# Altium schematic symbol library PocketLab_DMM_EVT0.SchLib: 42 symbols (part 3 of 3)
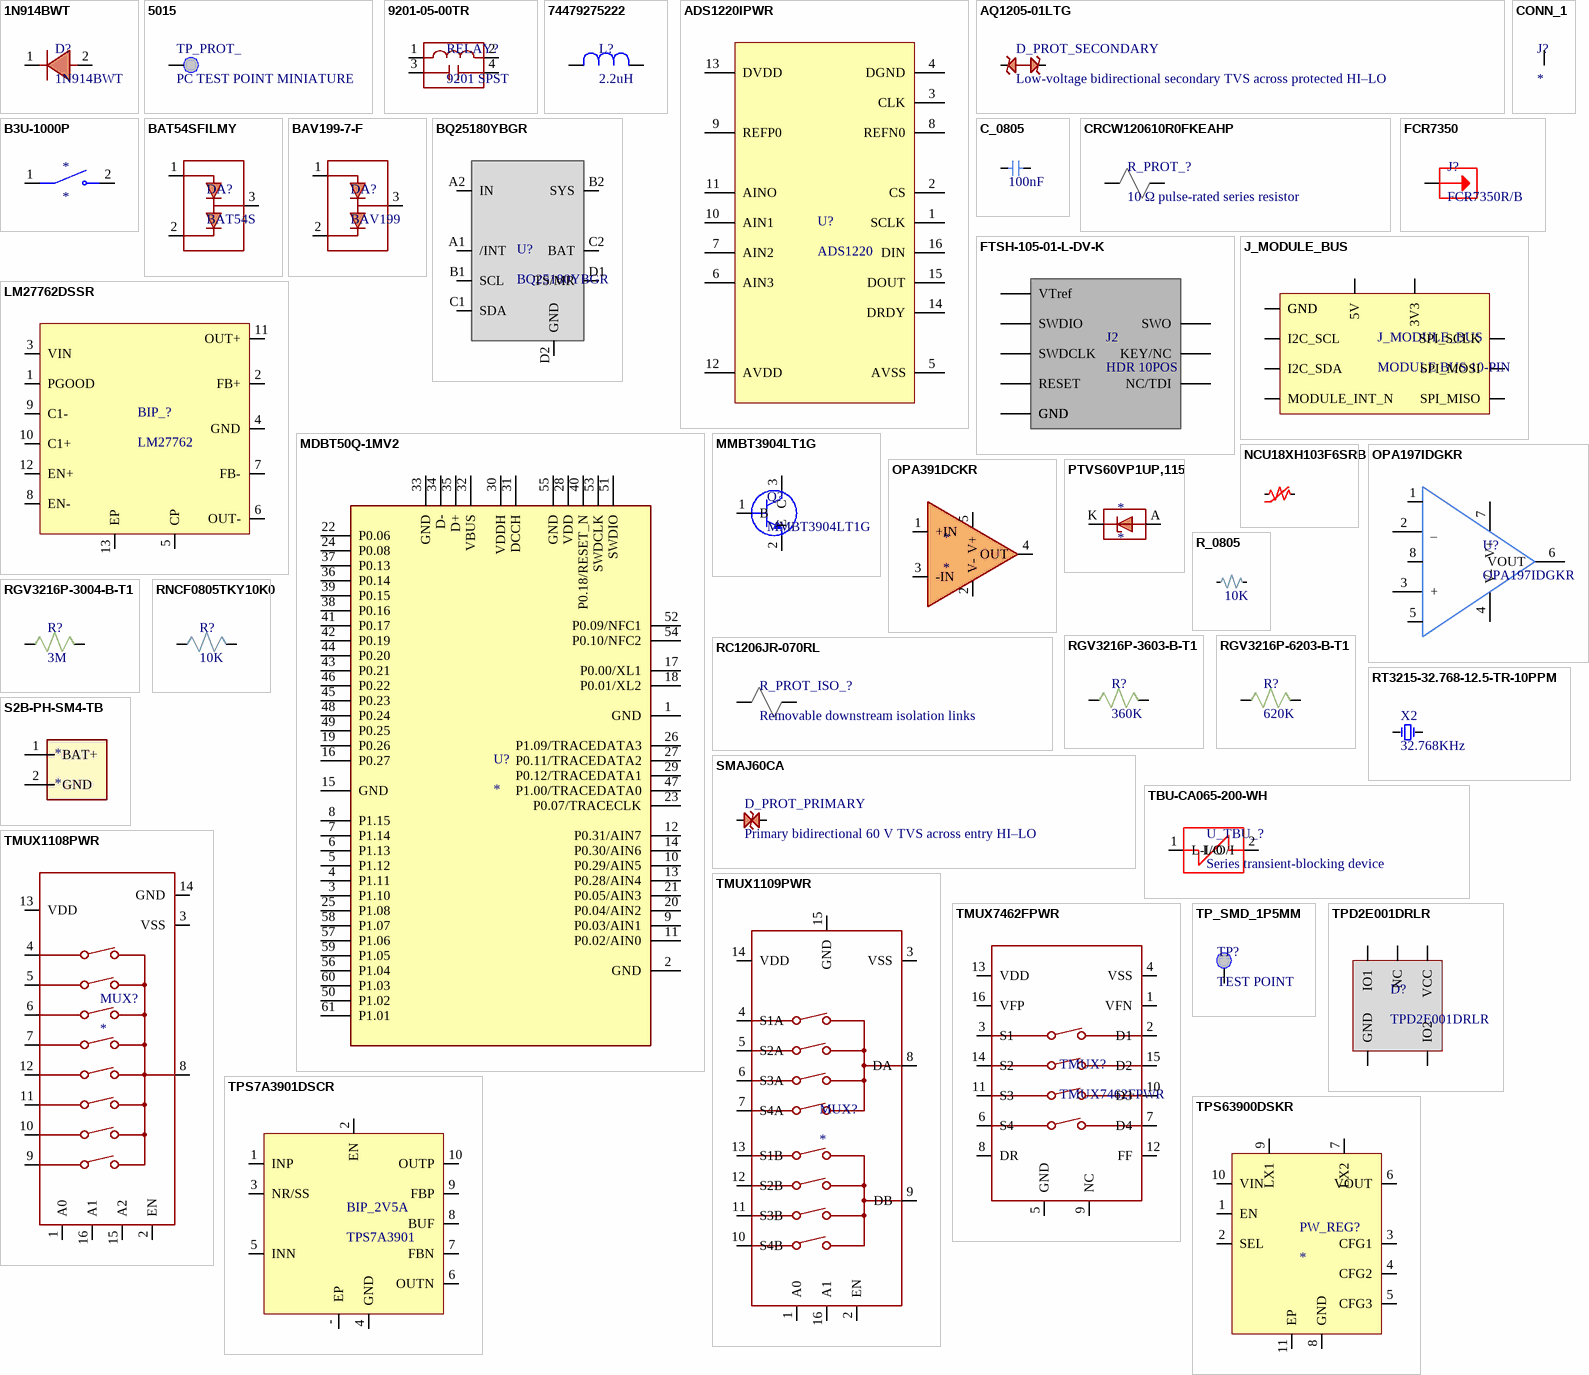
[diagram p3: symbols 1N914BWT to TPS63900DSKR]

## RNCF0805TKY10K0
designator R?, comment 10K
RES SMD 10K OHM 0.01% 1/8W 0805; Manufacturer: Stackpole Electronics; Manufacturer Part Number: RNCF0805TKY10K0; Manufacturer Package Identifier: 0805 (2012 metric); Max Power Dissipation: 125mW; Value: 10kΩ; Temperature Coefficient: 5ppm/°C; Working Voltage: 150V; Supplier: DigiKey; Supplier Part Number: RNCF0805TKY10K0CT-ND; RoHS: Compliant; Category: Chip SMD Resistors; Stock: 4649; Pricing: 1=1.61, 10=1.334, 50=1.1716, 100=1.1105, 500=0.99044, 1000=0.94751, 2000=0.90945, 3000=0.8893, 5000=0.86599, 7000=0.85183, 10000=0.8378 (USD); Case/Package: 0805; Case Code (Imperial): 0805; Case Code (Metric): 2012; Composition: Thin Film; Country of Origin: Taiwan; Export Control Classification Number (ECCN) Code: EAR99; Features: Moisture Resistant; Height: 550µm; Harmonized Tariff Schedule (HTS) Code: 8533.21.00.30; Introduction Date: 2011-06-03; Lead Free: Lead Free; Length: 2mm; Lifecycle Status: Production; Max Operating Temperature: 155°C; Min Operating Temperature: -55°C; Mounting Technology: Surface Mount; Number of Terminals: 2; Number of Terminations: 2; Packaging: Tape & Reel (TR); Power Rating: 125mW; Ratings: AEC-Q200; REACH SVHC: Yes; Schedule B: 8533210045, 8533210045|8533210045|8533210045|8533210045|8533210045; Tolerance: 0.01%; Width: 1.25mm; ComponentLink1URL: https://datasheet.octopart.com:443/RNCF0805TKY10K0-Stackpole-Electronics-datasheet-182148124.pdf?src-supplier=IHS; ComponentLink1Description: https://datasheet.octopart.com:443/RNCF0805TKY10K0-Stackpole-Electronics-datasheet-182148124.pdf?src-supplier=IHS; ComponentLink2URL: https://datasheet.octopart.com:443/RNCF0805TKY10K0-Stackpole-Electronics-datasheet-12511394.pdf?src-supplier=Factory+Futures; ComponentLink2Description: https://datasheet.octopart.com:443/RNCF0805TKY10K0-Stackpole-Electronics-datasheet-12511394.pdf?src-supplier=Factory+Futures; ComponentLink3URL: https://datasheet.octopart.com:443/RNCF0805TKY10K0-Stackpole-Electronics-datasheet-141158876.pdf?src-supplier=Stackpole+Electronics; ComponentLink3Description: https://datasheet.octopart.com:443/RNCF0805TKY10K0-Stackpole-Electronics-datasheet-141158876.pdf?src-supplier=Stackpole+Electronics; ComponentLink4URL: https://datasheet.octopart.com:443/RNCF0805TKY10K0-Stackpole-Electronics-datasheet-28504821.pdf?src-supplier=Master+Electronics; ComponentLink4Description: https://datasheet.octopart.com:443/RNCF0805TKY10K0-Stackpole-Electronics-datasheet-28504821.pdf?src-supplier=Master+Electronics; ComponentLink5URL: https://datasheet.octopart.com/RNCF0805TKY10K0-Stackpole-Electronics-datasheet-11755897.pdf; ComponentLink5Description: https://datasheet.octopart.com/RNCF0805TKY10K0-Stackpole-Electronics-datasheet-11755897.pdf; ComponentLink6URL: http://sigma.octopart.com:80/15941409/materials_sheet/Stackpole-Electronics-RNCF0805TKY10K0.pdf?src-supplier=Compliance+Statements; ComponentLink6Description: http://sigma.octopart.com:80/15941409/materials_sheet/Stackpole-Electronics-RNCF0805TKY10K0.pdf?src-supplier=Compliance+Statements; ComponentLink7URL: http://sigma.octopart.com:80/141158212/rohs_statement/Stackpole-Electronics-RNCF0805TKY10K0.pdf?src-supplier=Compliance+Statements; ComponentLink7Description: http://sigma.octopart.com:80/141158212/rohs_statement/Stackpole-Electronics-RNCF0805TKY10K0.pdf?src-supplier=Compliance+Statements; ComponentLink8URL: http://sigma.octopart.com:80/141158211/reach_statement/Stackpole-Electronics-RNCF0805TKY10K0.pdf?src-supplier=Compliance+Statements; ComponentLink8Description: http://sigma.octopart.com:80/141158211/reach_statement/Stackpole-Electronics-RNCF0805TKY10K0.pdf?src-supplier=Compliance+Statements
footprint R0805
pins: 1, 2

## RT3215-32.768-12.5-TR-10PPM
designator X2, comment 32.768KHz
Parallel - Fundamental Quartz Crystal, 0.032768MHz Nom; Manufacturer: Raltron Electronics; Manufacturer Part Number: RT3215-32.768-12.5-TR-10PPM; Frequency Stability: 144ppm; Frequency Tolerance: 0.001%; Load Capacitance: 12.5pF; ESR: 70kΩ; Supplier: DigiKey; Supplier Part Number: 2151-RT3215-32.768-12.5-TR-10PPMCT-ND; RoHS: Compliant; Category: Crystals; Stock: 7832; Pricing: 1=0.39, 10=0.342, 25=0.3236, 50=0.3104, 100=0.2976, 250=0.2814, 500=0.26974, 1000=0.25858 (USD); China RoHS: Compliant; Country of Origin: Mainland China; Frequency: 32.768kHz; Harmonized Tariff Schedule (HTS) Code: 8541.60.00.10; Introduction Date: 2020-02-06; Lead Free: Lead Free; Lifecycle Status: Production; Max Operating Temperature: 85°C; Min Operating Temperature: -40°C; Mounting Technology: Surface Mount; REACH SVHC: Yes; ComponentLink1URL: https://datasheet.octopart.com:443/RT3215-32.768-12.5-TR-10PPM-Raltron-Electronics-datasheet-181182522.pdf?src-supplier=IHS; ComponentLink1Description: https://datasheet.octopart.com:443/RT3215-32.768-12.5-TR-10PPM-Raltron-Electronics-datasheet-181182522.pdf?src-supplier=IHS; ComponentLink2URL: https://datasheet.octopart.com:443/RT3215-32.768-12.5-TR-10PPM-Raltron-Electronics-datasheet-82614827.pdf?src-supplier=Future+Electronics; ComponentLink2Description: https://datasheet.octopart.com:443/RT3215-32.768-12.5-TR-10PPM-Raltron-Electronics-datasheet-82614827.pdf?src-supplier=Future+Electronics; ComponentLink3URL: https://datasheet.octopart.com:443/RT3215-32.768-12.5-TR-10PPM-Raltron-Electronics-datasheet-62112304.pdf?src-supplier=Future+Electronics; ComponentLink3Description: https://datasheet.octopart.com:443/RT3215-32.768-12.5-TR-10PPM-Raltron-Electronics-datasheet-62112304.pdf?src-supplier=Future+Electronics; ComponentLink4URL: https://datasheet.octopart.com:443/RT3215-32.768-12.5-TR-10PPM-Raltron-Electronics-datasheet-12522443.pdf?src-supplier=Future+Electronics; ComponentLink4Description: https://datasheet.octopart.com:443/RT3215-32.768-12.5-TR-10PPM-Raltron-Electronics-datasheet-12522443.pdf?src-supplier=Future+Electronics
footprint RT3215
pins: 1, 2

## S2B-PH-SM4-TB
designator *
Board Connector, 2 Contact(s), 1 Row(s), Male, Right Angle, Surface Mount Terminal; Manufacturer: JST; Manufacturer Part Number: S2B-PH-SM4-TB; Contact Resistance: 20mΩ; Current Rating: 2A; Dielectric Material: Polyamide; Insulation Resistance: 1GΩ; Number of Poles: 2; Pitch: 2.0066mm; Ratings: CSA, TUV; Supplier: DigiKey; Supplier Part Number: 455-S2B-PH-SM4-TBDKR-ND; RoHS: Compliant; Category: Card Edge Connectors; Stock: 179159; Pricing: 1=0.49, 10=0.417, 100=0.3547, 500=0.31654 (USD); Case/Package: SMD/SMT; Contact Plating: Tin; Gender: Male; Height: 5.5mm; Length: 7.9mm; Lifecycle Status: Production; Max Operating Temperature: 85°C; Min Operating Temperature: -25°C; Pins: 2; Number of Positions: 2; Number of Rows: 1; Orientation: Right Angle; Terminal Pitch: 2mm; Width: 7.6mm; ComponentLink1URL: https://datasheet.octopart.com:443/S2B-PH-SM4-TB-JST-datasheet-15068535.pdf?src-supplier=IHS; ComponentLink1Description: https://datasheet.octopart.com:443/S2B-PH-SM4-TB-JST-datasheet-15068535.pdf?src-supplier=IHS; ComponentLink2URL: https://datasheet.octopart.com:443/S2B-PH-SM4-TB-JST-datasheet-12510261.pdf?src-supplier=TME; ComponentLink2Description: https://datasheet.octopart.com:443/S2B-PH-SM4-TB-JST-datasheet-12510261.pdf?src-supplier=TME; ComponentLink3URL: https://datasheet.octopart.com:443/S2B-PH-SM4-TB-JST-datasheet-159515011.pdf?src-supplier=HQonline; ComponentLink3Description: https://datasheet.octopart.com:443/S2B-PH-SM4-TB-JST-datasheet-159515011.pdf?src-supplier=HQonline
footprint S2B-PH-SM4-TB (SMD-JST)
pins: 1 BAT+, 2 GND

## SMAJ60CA
designator D_PROT_PRIMARY, comment Primary bidirectional 60 V TVS across entry HI–LO
SMAJ Series 96.8 V 0.4 kW Surface Mount Bi-Directional TVS Diode - DO-214AC; Manufacturer: Littelfuse; Manufacturer Part Number: SMAJ60CA; Breakdown Voltage: 70.2V; Clamping Voltage: 96.8V; Forward Voltage: 3.5V; Max Breakdown Voltage: 73.7V; Max Power Dissipation: 3.3W; Max Reverse Leakage Current: 1µA; Min Breakdown Voltage: 66.7V; Number of Elements: 1; Peak Pulse Current: 4.1A; Peak Pulse Power: 400W; Reverse Standoff Voltage: 60V; Test Current: 1mA; Supplier: DigiKey; Supplier Part Number: SMAJ60CALFCT-ND; RoHS: Compliant; Category: TVS Diodes; Stock: 304826; Pricing: 1=0.51, 10=0.313, 50=0.2258, 100=0.1975, 500=0.14758, 5000=0.08591, 15000=0.07444 (USD); Country of Origin: Mainland China, Malaysia; Export Control Classification Number (ECCN) Code: EAR99; Harmonized Tariff Schedule (HTS) Code: 8541.10.00.50; Introduction Date: 2003-11-20; Lead Free: Lead Free; Lifecycle Status: Production; Max Operating Temperature: 150°C; Min Operating Temperature: -65°C; Pins: 2; Number of Terminals: 2; Packaging: Cut Tape; Peak Reverse Current: 1µA; Polarity: Bidirectional; Power Rating: 400W; REACH SVHC: No; Reverse Voltage: 60V; Schedule B: 8541100080, 8541100080|8541100080|8541100080|8541100080|8541100080|8541100080|8541100080|8541100080|8541100080|8541100080|8541100080|8541100080|8541100080|8541100080|8541100080|8541100080|8541100080|8541100080|8541100080|8541100080|8541100080|8541100080, 8541100080|8541100080|8541100080|8541100080|8541100080|8541100080|8541100080|8541100080|8541100080|8541100080|8541100080|8541100080|8541100080|8541100080|8541100080|8541100080|8541100080|8541100080|8541100080|8541100080|8541100080|8541100080|8541100080, 8541100080|8541100080|8541100080|8541100080|8541100080|8541100080|8541100080|8541100080|8541100080|8541100080|8541100080|8541100080|8541100080|8541100080|8541100080|8541100080|8541100080|8541100080|8541100080|8541100080|8541100080|8541100080|8541100080|85; Voltage Rating (DC): 60V; ComponentLink1URL: https://datasheet.octopart.com:443/SMAJ60CA-Littelfuse-datasheet-150463581.pdf?src-supplier=HQonline; ComponentLink1Description: https://datasheet.octopart.com:443/SMAJ60CA-Littelfuse-datasheet-150463581.pdf?src-supplier=HQonline; ComponentLink2URL: https://datasheet.octopart.com:443/SMAJ60CA-Littelfuse-datasheet-63710798.pdf?src-supplier=Farnell; ComponentLink2Description: https://datasheet.octopart.com:443/SMAJ60CA-Littelfuse-datasheet-63710798.pdf?src-supplier=Farnell; ComponentLink3URL: https://datasheet.octopart.com:443/SMAJ60CA-Littelfuse-datasheet-34148521.pdf?src-supplier=Farnell; ComponentLink3Description: https://datasheet.octopart.com:443/SMAJ60CA-Littelfuse-datasheet-34148521.pdf?src-supplier=Farnell; ComponentLink4URL: https://datasheet.octopart.com:443/SMAJ60CA-Littelfuse-datasheet-5393952.pdf?src-supplier=element14+APAC; ComponentLink4Description: https://datasheet.octopart.com:443/SMAJ60CA-Littelfuse-datasheet-5393952.pdf?src-supplier=element14+APAC; ComponentLink5URL: https://datasheet.octopart.com:443/SMAJ60CA-Littelfuse-datasheet-11547152.pdf?src-supplier=Newark; ComponentLink5Description: https://datasheet.octopart.com:443/SMAJ60CA-Littelfuse-datasheet-11547152.pdf?src-supplier=Newark; ComponentLink6URL: https://datasheet.octopart.com:443/SMAJ60CA-Littelfuse-datasheet-511791.pdf?src-supplier=Newark; ComponentLink6Description: https://datasheet.octopart.com:443/SMAJ60CA-Littelfuse-datasheet-511791.pdf?src-supplier=Newark; ComponentLink7URL: https://datasheet.octopart.com:443/SMAJ60CA-Littelfuse-datasheet-17901671.pdf?src-supplier=Future+Electronics; ComponentLink7Description: https://datasheet.octopart.com:443/SMAJ60CA-Littelfuse-datasheet-17901671.pdf?src-supplier=Future+Electronics; ComponentLink8URL: https://datasheet.octopart.com:443/SMAJ60CA-Littelfuse-datasheet-1053.pdf?src-supplier=DigiKey; ComponentLink8Description: https://datasheet.octopart.com:443/SMAJ60CA-Littelfuse-datasheet-1053.pdf?src-supplier=DigiKey
pins: 1, 2

## TBU-CA065-200-WH
designator U_TBU_?, comment Series transient-blocking device
Bourns BidirectionalTVSDiodes, Maximum clamping voltage 650V, SMD mount, DFNencapsulation; Manufacturer Part Number: TBU-CA065-200-WH; Current Rating: 200mA; Element Configuration: Single; ESD Protection: Yes; Max Junction Temperature (Tj): 125°C; Number of Circuits: 2; Number of Elements: 1; Peak Pulse Current: 400mA; Value: 8.6Ω; Response Time: 1µs; Reverse Standoff Voltage: 20V; Voltage Rating: 300V; Supplier: DigiKey; Supplier Part Number: TBU-CA065-200-WHDKR-ND; Manufacturer: Bourns; RoHS: Compliant; Category: ESD and Circuit Protection ICs; Stock: 125129; Pricing: 1=2.89, 10=1.866, 100=1.2809, 500=1.03072, 1000=0.95931 (USD); Case/Package: DFN; China RoHS: Compliant; Clamping Voltage: 650V; Direction: Bidirectional; Height: 1mm; Length: 6.5mm; Lifecycle Status: Production; Max Operating Temperature: 125°C; Manufacturer Package Identifier: TBU-CA065-200-WH; Min Operating Temperature: -55°C; Mounting Technology: Surface Mount; Pins: 12; Number of Terminals: 3; REACH SVHC: Yes; Termination: Solder; Voltage Rating (DC): 650V; Weight: 2.154564g; Working Voltage: 300V; ComponentLink1URL: https://datasheet.octopart.com:443/TBU-CA065-200-WH-Bourns-datasheet-179988734.pdf?src-supplier=IHS; ComponentLink1Description: https://datasheet.octopart.com:443/TBU-CA065-200-WH-Bourns-datasheet-179988734.pdf?src-supplier=IHS; ComponentLink2URL: https://datasheet.octopart.com:443/TBU-CA065-200-WH-Bourns-datasheet-68308055.pdf?src-supplier=Newark; ComponentLink2Description: https://datasheet.octopart.com:443/TBU-CA065-200-WH-Bourns-datasheet-68308055.pdf?src-supplier=Newark; ComponentLink3URL: https://datasheet.octopart.com:443/TBU-CA065-200-WH-Bourns-datasheet-13546931.pdf?src-supplier=Newark; ComponentLink3Description: https://datasheet.octopart.com:443/TBU-CA065-200-WH-Bourns-datasheet-13546931.pdf?src-supplier=Newark; ComponentLink4URL: https://datasheet.octopart.com:443/TBU-CA065-200-WH-Bourns-datasheet-165058525.pdf?src-supplier=TME; ComponentLink4Description: https://datasheet.octopart.com:443/TBU-CA065-200-WH-Bourns-datasheet-165058525.pdf?src-supplier=TME; ComponentLink5URL: https://datasheet.octopart.com:443/TBU-CA065-200-WH-Bourns-datasheet-188858799.pdf?src-supplier=TME; ComponentLink5Description: https://datasheet.octopart.com:443/TBU-CA065-200-WH-Bourns-datasheet-188858799.pdf?src-supplier=TME; ComponentLink6URL: https://datasheet.octopart.com:443/TBU-CA065-200-WH-Bourns-datasheet-134530276.pdf?src-supplier=Electro+Sonic; ComponentLink6Description: https://datasheet.octopart.com:443/TBU-CA065-200-WH-Bourns-datasheet-134530276.pdf?src-supplier=Electro+Sonic; ComponentLink7URL: https://datasheet.octopart.com:443/TBU-CA065-200-WH-Bourns-datasheet-49870659.pdf?src-supplier=RS+(Formerly+Allied+Electronics); ComponentLink7Description: https://datasheet.octopart.com:443/TBU-CA065-200-WH-Bourns-datasheet-49870659.pdf?src-supplier=RS+(Formerly+Allied+Electronics); ComponentLink8URL: https://datasheet.octopart.com:443/TBU-CA065-200-WH-Bourns-datasheet-9609430.pdf?src-supplier=RS+(Formerly+Allied+Electronics); ComponentLink8Description: https://datasheet.octopart.com:443/TBU-CA065-200-WH-Bourns-datasheet-9609430.pdf?src-supplier=RS+(Formerly+Allied+Electronics); ComponentLink9URL: https://datasheet.octopart.com:443/TBU-CA065-200-WH-Bourns-datasheet-11773615.pdf?src-supplier=Arrow+Electronics; ComponentLink9Description: https://datasheet.octopart.com:443/TBU-CA065-200-WH-Bourns-datasheet-11773615.pdf?src-supplier=Arrow+Electronics; ComponentLink10URL: https://datasheet.octopart.com:443/TBU-CA065-200-WH-Bourns-datasheet-8815390.pdf?src-supplier=Farnell; ComponentLink10Description: https://datasheet.octopart.com:443/TBU-CA065-200-WH-Bourns-datasheet-8815390.pdf?src-supplier=Farnell; ComponentLink11URL: http://sigma.octopart.com:80/conflict_mineral_statement/Bourns-company-36.pdf?src-supplier=Compliance+Statements; ComponentLink11Description: http://sigma.octopart.com:80/conflict_mineral_statement/Bourns-company-36.pdf?src-supplier=Compliance+Statements
pins: 1 L-I/O, 2 L-O/I

## TMUX1108PWR
designator MUX?
4Ω 1 SP8T single pole eight throw TSSOP-16-175mil Analog Switches, Multiplexers ROHS; Manufacturer: Texas Instruments; Manufacturer Part Number: TMUX1108PWR; Manufacturer Lifecycle Status: ACTIVE; -3db Bandwidth: 90MHz; Max Junction Temperature (Tj): 150°C; Max Supply Voltage: 5.5V; Min Supply Voltage: 1.08V; Nominal Supply Current: 8nA; Number of Channels: 1; On-State Resistance: 2.5Ω; Value: 2.5Ω; Supplier: DigiKey; Supplier Part Number: 296-53256-1-ND; RoHS: Compliant; Category: Analog Switches and Multiplexers; Stock: 7968; Pricing: 1=4.64, 10=3.522, 25=3.2432, 100=2.9359, 250=2.7894, 500=2.7892 (USD); Ambient Temperature Range High: 125°C; Case/Package: TSSOP; Height: 1.2mm; Length: 5mm; Lifecycle Status: Production; Max Operating Temperature: 125°C; Min Operating Temperature: -40°C; Number of Circuits: 1; Pins: 16; Schedule B: 8542390000|8542390000, 8542390000|8542390000|8542390000|8542390000|8542390000; Thickness: 1mm; Width: 4.4mm; ComponentLink1URL: https://sigma.octopart.com:443/189718192/technical_drawing/Texas-Instruments-TMUX1108PWR.pdf?src-supplier=Texas+Instruments; ComponentLink1Description: https://sigma.octopart.com:443/189718192/technical_drawing/Texas-Instruments-TMUX1108PWR.pdf?src-supplier=Texas+Instruments; ComponentLink2URL: https://octopart.com:443/opatz8j6/c1?t=8mpFLPHLY3zsvg192oKOoJhxPu9FFSIYKLpg2jz00-bcaU5nrLa_cvZVuB9ZC5Xm4orrYOvV1UWJwfNwlPUNSlNsiu9DIgcqmHyqY4w7lKnbWiMHXi2w6qWB6alUEMySi-G6KsboCFxsV1U-cWBQoR-OdmsMHnlH9vHpO96We1BNnwt7WTwCEAgM2mgNAV8-mwubtqw_Ldzre3i85H5d_ArURCitZ7DRuQtwri4hbKMucXilvSPTM_mY35yVOQcINtY0Y1CrHP-kojv9s21RR55gf4uLq9hEbDlmxy70ODqP1DShHb2SCYHSi85d6g33Gr4jJv9FxxGP4d-s4Mo7kZCsceXF1DNPzFSg4kLXv9Xkwndi-Kgll2VPGBlBQRmuJuHVh6o&src-supplier=Texas+Instruments; ComponentLink2Description: https://octopart.com:443/opatz8j6/c1?t=8mpFLPHLY3zsvg192oKOoJhxPu9FFSIYKLpg2jz00-bcaU5nrLa_cvZVuB9ZC5Xm4orrYOvV1UWJwfNwlPUNSlNsiu9DIgcqmHyqY4w7lKnbWiMHXi2w6qWB6alUEMySi-G6KsboCFxsV1U-cWBQoR-OdmsMHnlH9vHpO96We1BNnwt7WTwCEAgM2mgNAV8-mwubtqw_Ldzre3i85H5d_ArURCitZ7DRuQtwri4hbKMucXilvSPTM_mY35yVOQcINtY0Y1CrHP-kojv9s21RR55gf4uLq9hEbDlmxy70ODqP1DShHb2SCYHSi85d6g33Gr4jJv9FxxGP4d-s4Mo7kZCsceXF1DNPzFSg4kLXv9Xkwndi-Kgll2VPGBlBQRmuJuHVh6o&src-supplier=Texas+Instruments; ComponentLink3URL: https://sigma.octopart.com:443/116621398/technical_drawing/Texas-Instruments-TMUX1108PWR.pdf?src-supplier=Texas+Instruments; ComponentLink3Description: https://sigma.octopart.com:443/116621398/technical_drawing/Texas-Instruments-TMUX1108PWR.pdf?src-supplier=Texas+Instruments; ComponentLink4URL: https://datasheet.octopart.com:443/TMUX1108PWR-Texas-Instruments-datasheet-153505902.pdf?src-supplier=Upverter; ComponentLink4Description: https://datasheet.octopart.com:443/TMUX1108PWR-Texas-Instruments-datasheet-153505902.pdf?src-supplier=Upverter; ComponentLink5URL: https://datasheet.octopart.com:443/TMUX1108PWR-Texas-Instruments-datasheet-165811995.pdf?src-supplier=SHENGYU+ELECTRONICS; ComponentLink5Description: https://datasheet.octopart.com:443/TMUX1108PWR-Texas-Instruments-datasheet-165811995.pdf?src-supplier=SHENGYU+ELECTRONICS; ComponentLink6URL: http://sigma.octopart.com:80/reach_statement/Texas-Instruments-company-64.pdf?src-supplier=Compliance+Statements; ComponentLink6Description: http://sigma.octopart.com:80/reach_statement/Texas-Instruments-company-64.pdf?src-supplier=Compliance+Statements; ComponentLink7URL: http://sigma.octopart.com:80/conflict_mineral_statement/Texas-Instruments-company-63.pdf?src-supplier=Compliance+Statements; ComponentLink7Description: http://sigma.octopart.com:80/conflict_mineral_statement/Texas-Instruments-company-63.pdf?src-supplier=Compliance+Statements
footprint TMUX1108PWR
pins: 1 A0, 2 EN, 3 VSS, 4, 5, 6, 7, 8, 9, 10, 11, 12, 13 VDD, 14 GND, 15 A2, 16 A1

## TMUX1109PWR
designator MUX?
4 4.9Ω Double Pole Four Throw (DP4T) TSSOP-16-175mil Analog Switches, Multiplexers ROHS; Manufacturer: Texas Instruments; Manufacturer Part Number: TMUX1109PWR; Manufacturer Lifecycle Status: ACTIVE; -3db Bandwidth: 135MHz; Max Junction Temperature (Tj): 150°C; Max Supply Voltage: 5.5V; Min Supply Voltage: 1.08V; Nominal Supply Current: 8nA; Number of Channels: 2; On-State Resistance: 1.8Ω; Value: 2.5Ω; Supplier: DigiKey; Supplier Part Number: 296-53438-1-ND; RoHS: Compliant; Category: Analog Switches and Multiplexers; Stock: 4345; Pricing: 1=4.6, 10=3.492, 25=3.2144, 100=2.9097, 250=2.76432, 500=2.76318 (USD); Ambient Temperature Range High: 125°C; Case/Package: TSSOP; Height: 1.2mm; Length: 5mm; Lifecycle Status: Production; Max Operating Temperature: 125°C; Min Operating Temperature: -40°C; Number of Circuits: 2; Pins: 16; Schedule B: 8542390000, 8542390000|8542390000, 8542390000|8542390000|8542390000|8542390000|8542390000; Thickness: 1mm; Width: 4.4mm; ComponentLink1URL: https://sigma.octopart.com:443/189718192/technical_drawing/Texas-Instruments-TMUX1109PWR.pdf?src-supplier=Texas+Instruments; ComponentLink1Description: https://sigma.octopart.com:443/189718192/technical_drawing/Texas-Instruments-TMUX1109PWR.pdf?src-supplier=Texas+Instruments; ComponentLink2URL: https://octopart.com:443/opatz8j6/c1?t=lrqLgxqhOv5mRhW8sYJ4a35mRCMrE9WTtZWYXTuQwc5VAvwww8s9_bUQK_GQRUezFeOkf0xzYxG6KZlaBbzSWezLsR3Ws1FdDXdfW4axWjQfpVRIkxDZut9IKoVYaUCFWQ7mgDq3Uq0jZs542GlN5nOoAbYMoylPUhn7HG8S4oC_MsKR6_xb-xxtq9szC0WY0b2a732R0pvwpvNk8ULRxEmsgTiAI1WSnroIRWDIOCjtfrtMf_RErv3i4jOvYKsBRMPWwGfeEPsuFT0V9Dfo4Upi1cqJYXKTDqVzHb1Z1EghRgojnojRRDIQ4SqyN7fGhC2vBhmR1QUPkywNlMfenpxNL04oXP2EX7UUIAtjSyjFOVV8L-MsmAtzvJRRZT-j-bFIxkN0&src-supplier=Texas+Instruments; ComponentLink2Description: https://octopart.com:443/opatz8j6/c1?t=lrqLgxqhOv5mRhW8sYJ4a35mRCMrE9WTtZWYXTuQwc5VAvwww8s9_bUQK_GQRUezFeOkf0xzYxG6KZlaBbzSWezLsR3Ws1FdDXdfW4axWjQfpVRIkxDZut9IKoVYaUCFWQ7mgDq3Uq0jZs542GlN5nOoAbYMoylPUhn7HG8S4oC_MsKR6_xb-xxtq9szC0WY0b2a732R0pvwpvNk8ULRxEmsgTiAI1WSnroIRWDIOCjtfrtMf_RErv3i4jOvYKsBRMPWwGfeEPsuFT0V9Dfo4Upi1cqJYXKTDqVzHb1Z1EghRgojnojRRDIQ4SqyN7fGhC2vBhmR1QUPkywNlMfenpxNL04oXP2EX7UUIAtjSyjFOVV8L-MsmAtzvJRRZT-j-bFIxkN0&src-supplier=Texas+Instruments; ComponentLink3URL: https://sigma.octopart.com:443/116621398/technical_drawing/Texas-Instruments-TMUX1109PWR.pdf?src-supplier=Texas+Instruments; ComponentLink3Description: https://sigma.octopart.com:443/116621398/technical_drawing/Texas-Instruments-TMUX1109PWR.pdf?src-supplier=Texas+Instruments; ComponentLink4URL: https://datasheet.octopart.com:443/TMUX1109PWR-Texas-Instruments-datasheet-150595089.pdf?src-supplier=SHENGYU+ELECTRONICS; ComponentLink4Description: https://datasheet.octopart.com:443/TMUX1109PWR-Texas-Instruments-datasheet-150595089.pdf?src-supplier=SHENGYU+ELECTRONICS; ComponentLink5URL: http://sigma.octopart.com:80/reach_statement/Texas-Instruments-company-64.pdf?src-supplier=Compliance+Statements; ComponentLink5Description: http://sigma.octopart.com:80/reach_statement/Texas-Instruments-company-64.pdf?src-supplier=Compliance+Statements; ComponentLink6URL: http://sigma.octopart.com:80/conflict_mineral_statement/Texas-Instruments-company-63.pdf?src-supplier=Compliance+Statements; ComponentLink6Description: http://sigma.octopart.com:80/conflict_mineral_statement/Texas-Instruments-company-63.pdf?src-supplier=Compliance+Statements
footprint TMUX1109PWR
pins: 1 A0, 2 EN, 3 VSS, 4 S1A, 5 S2A, 6 S3A, 7 S4A, 8 DA, 9 DB, 10 S4B, 11 S3B, 12 S2B, 13 S1B, 14 VDD, 15 GND, 16 A1

## TMUX7462FPWR
designator TMUX?
±60-V fault-protected, latch-up immune, 4-channel protector, adjustable fault threshold, 1.8-V logic 16-TSSOP -40 to...; Manufacturer: Texas Instruments; Manufacturer Lifecycle Status: ACTIVE; Supplier: DigiKey; Supplier Part Number: 296-TMUX7462FPWRCT-ND; Manufacturer Part Number: TMUX7462FPWR; RoHS: Compliant; Category: Analog Switches and Multiplexers; Stock: 2184; Pricing: 1=8.84, 10=6.869, 25=6.3764, 100=5.8344, 250=5.57616, 500=5.42046, 1000=5.29233, 3000=4.21278 (USD); Case/Package: TSSOP; Height: 1.2mm; Length: 5mm; Lifecycle Status: Production; Pins: 16; Thickness: 1mm; Width: 4.4mm; ComponentLink1URL: https://sigma.octopart.com:443/189718192/technical_drawing/Texas-Instruments-TMUX7462FPWR.pdf?src-supplier=Texas+Instruments; ComponentLink1Description: https://sigma.octopart.com:443/189718192/technical_drawing/Texas-Instruments-TMUX7462FPWR.pdf?src-supplier=Texas+Instruments; ComponentLink2URL: https://octopart.com:443/opatz8j6/c1?t=X7PI1-ZB_oaeAVQSXS_CZ7SN56g12ZV66TnRGITcTCXcjbdK8rkW-Nf5w8DbarpaGlqaLyZLydSbnLZ0rI1WSaVVHAOP_cP6ehA7C4hd7YAlV2cm2QvdT381npN72w3Cq7sTwp5ELIt5gBBTw6Gj9BgrVJf9OfNjgGdBiHbTjv4SAEf5HLNtMzr-DzO5NnddhT8tb1_AT8Gskhs6gmV05IB96su7prdKRRCj-YxbjfCniSfkzGePXLWciuFpHHZsuTO6JCs9uvkUgZ-Qz037fjmWkiE-c8K5L6ImK6BMjF8WW3S_6Y-VOtg097hvooGntlA_h3AD0VDsTPG-bTF191TQ11X4ABsrxDR0-Vg5XBP2h4eJj_0YE0o0ls3HvAea_jpiUkAt7tk&src-supplier=Texas+Instruments; ComponentLink2Description: https://octopart.com:443/opatz8j6/c1?t=X7PI1-ZB_oaeAVQSXS_CZ7SN56g12ZV66TnRGITcTCXcjbdK8rkW-Nf5w8DbarpaGlqaLyZLydSbnLZ0rI1WSaVVHAOP_cP6ehA7C4hd7YAlV2cm2QvdT381npN72w3Cq7sTwp5ELIt5gBBTw6Gj9BgrVJf9OfNjgGdBiHbTjv4SAEf5HLNtMzr-DzO5NnddhT8tb1_AT8Gskhs6gmV05IB96su7prdKRRCj-YxbjfCniSfkzGePXLWciuFpHHZsuTO6JCs9uvkUgZ-Qz037fjmWkiE-c8K5L6ImK6BMjF8WW3S_6Y-VOtg097hvooGntlA_h3AD0VDsTPG-bTF191TQ11X4ABsrxDR0-Vg5XBP2h4eJj_0YE0o0ls3HvAea_jpiUkAt7tk&src-supplier=Texas+Instruments; ComponentLink3URL: http://sigma.octopart.com:80/reach_statement/Texas-Instruments-company-64.pdf?src-supplier=Compliance+Statements; ComponentLink3Description: http://sigma.octopart.com:80/reach_statement/Texas-Instruments-company-64.pdf?src-supplier=Compliance+Statements; ComponentLink4URL: http://sigma.octopart.com:80/conflict_mineral_statement/Texas-Instruments-company-63.pdf?src-supplier=Compliance+Statements; ComponentLink4Description: http://sigma.octopart.com:80/conflict_mineral_statement/Texas-Instruments-company-63.pdf?src-supplier=Compliance+Statements
footprint TMUX1108PWR
pins: 1 VFN, 2 D1, 3 S1, 4 VSS, 5 GND, 6 S4, 7 D4, 8 DR, 9 NC, 10 D3, 11 S3, 12 FF, 13 VDD, 14 S2, 15 D2, 16 VFP

## TP_SMD_1P5MM
designator TP?, comment TEST POINT  (no BOM)
SMD TEST POINT
footprint TP_SMD_1P5MM (Single pad test point)
pins: 1

## TPD2E001DRLR
designator D?
TVS DIODE 5.5VWM SOT5; Manufacturer: Texas Instruments; Manufacturer Lifecycle Status: ACTIVE; Breakdown Voltage: 11V; Value: 1.5pF; Clamping Voltage: 105.5V; Direction: Unidirectional; Element Configuration: Dual; Interface: Ethernet, LVDS; Leakage Current: 1nA; Max Junction Temperature (Tj): 150°C; Max Supply Voltage: 5.5V; Min Supply Voltage: 900mV; Number of Bidirectional Channels: 2; Peak Pulse Current: 10A; Power Line Protection: Yes; Supplier: DigiKey; Supplier Part Number: 296-21883-1-ND; Manufacturer Part Number: TPD2E001DRLR; RoHS: Compliant; Category: TVS Diodes; Stock: 58515; Pricing: 1=0.94, 10=0.581, 50=0.426, 100=0.3757, 500=0.28718, 4000=0.21438, 12000=0.1887 (USD); Ambient Temperature Range High: 85°C; Case/Package: SOT; Contact Plating: Gold; Depth: 1.2mm; Height: 0m; Lead Free: Lead Free; Length: 1.6mm; Lifecycle Status: Production; Max Operating Temperature: 85°C; Min Breakdown Voltage: 11V; Min Operating Temperature: -40°C; Number of Channels: 2; Number of Outputs: 2; Pins: 5; Operating Supply Voltage: 5.5V; Polarity: Unidirectional; Radiation Hardening: No; REACH SVHC: No; Reverse Standoff Voltage: 5.5V; Schedule B: 8541100080, 8541100080|8541100080|8541100080|8541100080|8541100080; Termination: SMD/SMT; Thickness: 550µm; Weight: 2.806603mg; Width: 1.2mm; Working Voltage: 5.5V; ComponentLink1URL: https://sigma.octopart.com:443/181443230/technical_drawing/Texas-Instruments-TPD2E001DRLR.pdf?src-supplier=Texas+Instruments; ComponentLink1Description: https://sigma.octopart.com:443/181443230/technical_drawing/Texas-Instruments-TPD2E001DRLR.pdf?src-supplier=Texas+Instruments; ComponentLink2URL: https://octopart.com:443/opatz8j6/c1?t=LqR2T5dhtvY9fnpxm98ZmwTx2KiqwpTyiDh4fmM8LmA1Hdyy6Z2mouOGGfsyM_omQ8P5IG0puZB1FIHZzhg0KJLvuNDHe3DDIqJ06AtV8pixDYd3BFmVklDIB3kX-o173eNR4-Luk47j3Y2XPujUjAfL1QiTI-7Lwb7SjnJyfkP_0unbRDdGCGpXHS615Fdjh3G7NsLJ85TzDAC1d_IMlnk34_uqrgLYYqRua-puyyypeO8uz9sLuYmHH6Sbc_DvL2ro0fk8buRAQwE3oFAo5beh5rCnqbsY_N3VX2fm8SsZ707DKbb4CQjIrKArFyjIUZXCjzc8_URAOlXvyifWFdRvtoDMS1TxXzD8kCEUEJBHoB0mYqXmgSj3ODXeASq6-Iu83Q&src-supplier=Texas+Instruments; ComponentLink2Description: https://octopart.com:443/opatz8j6/c1?t=LqR2T5dhtvY9fnpxm98ZmwTx2KiqwpTyiDh4fmM8LmA1Hdyy6Z2mouOGGfsyM_omQ8P5IG0puZB1FIHZzhg0KJLvuNDHe3DDIqJ06AtV8pixDYd3BFmVklDIB3kX-o173eNR4-Luk47j3Y2XPujUjAfL1QiTI-7Lwb7SjnJyfkP_0unbRDdGCGpXHS615Fdjh3G7NsLJ85TzDAC1d_IMlnk34_uqrgLYYqRua-puyyypeO8uz9sLuYmHH6Sbc_DvL2ro0fk8buRAQwE3oFAo5beh5rCnqbsY_N3VX2fm8SsZ707DKbb4CQjIrKArFyjIUZXCjzc8_URAOlXvyifWFdRvtoDMS1TxXzD8kCEUEJBHoB0mYqXmgSj3ODXeASq6-Iu83Q&src-supplier=Texas+Instruments; ComponentLink3URL: https://datasheet.octopart.com:443/TPD2E001DRLR-Texas-Instruments-datasheet-37738713.pdf?src-supplier=Texas+Instruments; ComponentLink3Description: https://datasheet.octopart.com:443/TPD2E001DRLR-Texas-Instruments-datasheet-37738713.pdf?src-supplier=Texas+Instruments; ComponentLink4URL: https://sigma.octopart.com:443/178868977/technical_drawing/Texas-Instruments-TPD2E001DRLR.pdf?src-supplier=Texas+Instruments; ComponentLink4Description: https://sigma.octopart.com:443/178868977/technical_drawing/Texas-Instruments-TPD2E001DRLR.pdf?src-supplier=Texas+Instruments; ComponentLink5URL: https://sigma.octopart.com:443/149978402/technical_drawing/Texas-Instruments-TPD2E001DRLR.pdf?src-supplier=Texas+Instruments; ComponentLink5Description: https://sigma.octopart.com:443/149978402/technical_drawing/Texas-Instruments-TPD2E001DRLR.pdf?src-supplier=Texas+Instruments; ComponentLink6URL: https://datasheet.octopart.com:443/TPD2E001DRLR-Texas-Instruments-datasheet-21096186.pdf?src-supplier=Texas+Instruments; ComponentLink6Description: https://datasheet.octopart.com:443/TPD2E001DRLR-Texas-Instruments-datasheet-21096186.pdf?src-supplier=Texas+Instruments; ComponentLink7URL: https://datasheet.octopart.com:443/TPD2E001DRLR-Texas-Instruments-datasheet-10824604.pdf?src-supplier=Texas+Instruments; ComponentLink7Description: https://datasheet.octopart.com:443/TPD2E001DRLR-Texas-Instruments-datasheet-10824604.pdf?src-supplier=Texas+Instruments; ComponentLink8URL: https://datasheet.octopart.com:443/TPD2E001DRLR-Texas-Instruments-datasheet-10670688.pdf?src-supplier=Texas+Instruments; ComponentLink8Description: https://datasheet.octopart.com:443/TPD2E001DRLR-Texas-Instruments-datasheet-10670688.pdf?src-supplier=Texas+Instruments; ComponentLink9URL: https://datasheet.octopart.com:443/TPD2E001DRLR-Texas-Instruments-datasheet-10258578.pdf?src-supplier=Texas+Instruments; ComponentLink9Description: https://datasheet.octopart.com:443/TPD2E001DRLR-Texas-Instruments-datasheet-10258578.pdf?src-supplier=Texas+Instruments; ComponentLink10URL: https://datasheet.octopart.com:443/TPD2E001DRLR-Texas-Instruments-datasheet-153022.pdf?src-supplier=Texas+Instruments; ComponentLink10Description: https://datasheet.octopart.com:443/TPD2E001DRLR-Texas-Instruments-datasheet-153022.pdf?src-supplier=Texas+Instruments; ComponentLink11URL: https://sigma.octopart.com:443/49249896/technical_drawing/Texas-Instruments-TPD2E001DRLR.pdf?src-supplier=Texas+Instruments; ComponentLink11Description: https://sigma.octopart.com:443/49249896/technical_drawing/Texas-Instruments-TPD2E001DRLR.pdf?src-supplier=Texas+Instruments; ComponentLink12URL: https://datasheet.octopart.com:443/TPD2E001DRLR-Texas-Instruments-datasheet-32015767.pdf?src-supplier=Farnell; ComponentLink12Description: https://datasheet.octopart.com:443/TPD2E001DRLR-Texas-Instruments-datasheet-32015767.pdf?src-supplier=Farnell; ComponentLink13URL: https://datasheet.octopart.com:443/TPD2E001DRLR-Texas-Instruments-datasheet-12491271.pdf?src-supplier=Farnell; ComponentLink13Description: https://datasheet.octopart.com:443/TPD2E001DRLR-Texas-Instruments-datasheet-12491271.pdf?src-supplier=Farnell; ComponentLink14URL: https://datasheet.octopart.com:443/TPD2E001DRLR-Texas-Instruments-datasheet-66807720.pdf?src-supplier=Farnell; ComponentLink14Description: https://datasheet.octopart.com:443/TPD2E001DRLR-Texas-Instruments-datasheet-66807720.pdf?src-supplier=Farnell; ComponentLink15URL: https://datasheet.octopart.com:443/TPD2E001DRLR-Texas-Instruments-datasheet-24570227.pdf?src-supplier=Farnell; ComponentLink15Description: https://datasheet.octopart.com:443/TPD2E001DRLR-Texas-Instruments-datasheet-24570227.pdf?src-supplier=Farnell; ComponentLink16URL: https://datasheet.octopart.com:443/TPD2E001DRLR-Texas-Instruments-datasheet-16079961.pdf?src-supplier=Newark; ComponentLink16Description: https://datasheet.octopart.com:443/TPD2E001DRLR-Texas-Instruments-datasheet-16079961.pdf?src-supplier=Newark; ComponentLink17URL: https://datasheet.octopart.com:443/TPD2E001DRLR-Texas-Instruments-datasheet-159117907.pdf?src-supplier=LCSC; ComponentLink17Description: https://datasheet.octopart.com:443/TPD2E001DRLR-Texas-Instruments-datasheet-159117907.pdf?src-supplier=LCSC; ComponentLink18URL: https://datasheet.octopart.com:443/TPD2E001DRLR-Texas-Instruments-datasheet-137316104.pdf?src-supplier=Future+Electronics; ComponentLink18Description: https://datasheet.octopart.com:443/TPD2E001DRLR-Texas-Instruments-datasheet-137316104.pdf?src-supplier=Future+Electronics; ComponentLink19URL: https://datasheet.octopart.com:443/TPD2E001DRLR-Texas-Instruments-datasheet-14047829.pdf?src-supplier=iiiC; ComponentLink19Description: https://datasheet.octopart.com:443/TPD2E001DRLR-Texas-Instruments-datasheet-14047829.pdf?src-supplier=iiiC; ComponentLink20URL: http://sigma.octopart.com:80/reach_statement/Texas-Instruments-company-64.pdf?src-supplier=Compliance+Statements; ComponentLink20Description: http://sigma.octopart.com:80/reach_statement/Texas-Instruments-company-64.pdf?src-supplier=Compliance+Statements; ComponentLink21URL: http://sigma.octopart.com:80/conflict_mineral_statement/Texas-Instruments-company-63.pdf?src-supplier=Compliance+Statements; ComponentLink21Description: http://sigma.octopart.com:80/conflict_mineral_statement/Texas-Instruments-company-63.pdf?src-supplier=Compliance+Statements
footprint TPD2E001DRLR
pins: 1 VCC, 2 NC, 3 IO1, 4 GND, 5 IO2

## TPS7A3901DSCR
designator BIP_2V5A, comment TPS7A3901
Adjustable Positive LDO Regulator, 1.2V Min, 30V Max, 0.5V Dropout, BIPolar, PDSO10; Manufacturer: Texas Instruments; Manufacturer Part Number: TPS7A3901DSCR; Manufacturer Lifecycle Status: ACTIVE; Accuracy: 2.5%; Dropout Voltage: 238mV; Max Junction Temperature (Tj): 125°C; Max Supply Voltage: 33V; Min Supply Voltage: 3.3V; Number of Channels: 2; Output Current: 150mA; Supplier: DigiKey; Supplier Part Number: 296-TPS7A3901DSCRCT-ND; RoHS: Compliant; Category: LDO Voltage Regulators; Stock: 12355; Pricing: 1=6.05, 10=4.636, 25=4.2828, 100=3.8939, 250=3.74696 (USD); Height: 800µm; Length: 3mm; Lifecycle Status: Production; Max Operating Temperature: 125°C; Min Operating Temperature: -40°C; Number of Outputs: 2; Pins: 10; Thickness: 750µm; Width: 3mm; ComponentLink1URL: https://octopart.com:443/opatz8j6/c1?t=qUEeC3GiuC8ZN_BpQoQs30ZO7FmUvrKhv0JTLn3yjD3zq0EBLAettnNT5b1aPUNd5PjEIy9hr-IVcOYTckZO-iECBl6Uik_02IqbwWXXL641tw8N7tn0KWXeaQGXHcraht-Q3o_nztSdebV8jCSKt1b5yiysnN5i0vPu8jbaYWq5WsYhmmC1fgIHGFrvbGHFO2fdHyF4o-YpSS4dlBap24Db91UVesSNiTRrClEGLQfXbgElGBP6a5SeLEGKsyQPgFJq2ddYqUBJNr2FMtKtME92KYANIEn-mUGVtgeIW49GsgPfYqCVBNVzu7dRBgnwh2vA2Fjqr7e0yr3bPgka3qIRhD6_atThs2M_R_VzeGqIqRjOkgABPTXxfTXike1-5-decSE&src-supplier=Texas+Instruments; ComponentLink1Description: https://octopart.com:443/opatz8j6/c1?t=qUEeC3GiuC8ZN_BpQoQs30ZO7FmUvrKhv0JTLn3yjD3zq0EBLAettnNT5b1aPUNd5PjEIy9hr-IVcOYTckZO-iECBl6Uik_02IqbwWXXL641tw8N7tn0KWXeaQGXHcraht-Q3o_nztSdebV8jCSKt1b5yiysnN5i0vPu8jbaYWq5WsYhmmC1fgIHGFrvbGHFO2fdHyF4o-YpSS4dlBap24Db91UVesSNiTRrClEGLQfXbgElGBP6a5SeLEGKsyQPgFJq2ddYqUBJNr2FMtKtME92KYANIEn-mUGVtgeIW49GsgPfYqCVBNVzu7dRBgnwh2vA2Fjqr7e0yr3bPgka3qIRhD6_atThs2M_R_VzeGqIqRjOkgABPTXxfTXike1-5-decSE&src-supplier=Texas+Instruments; ComponentLink2URL: https://sigma.octopart.com:443/98447666/technical_drawing/Texas-Instruments-TPS7A3901DSCR.pdf?src-supplier=Texas+Instruments; ComponentLink2Description: https://sigma.octopart.com:443/98447666/technical_drawing/Texas-Instruments-TPS7A3901DSCR.pdf?src-supplier=Texas+Instruments; ComponentLink3URL: https://sigma.octopart.com:443/49252037/technical_drawing/Texas-Instruments-TPS7A3901DSCR.pdf?src-supplier=Texas+Instruments; ComponentLink3Description: https://sigma.octopart.com:443/49252037/technical_drawing/Texas-Instruments-TPS7A3901DSCR.pdf?src-supplier=Texas+Instruments; ComponentLink4URL: https://datasheet.octopart.com:443/TPS7A3901DSCR-Texas-Instruments-datasheet-150463808.pdf?src-supplier=Augswan; ComponentLink4Description: https://datasheet.octopart.com:443/TPS7A3901DSCR-Texas-Instruments-datasheet-150463808.pdf?src-supplier=Augswan; ComponentLink5URL: https://datasheet.octopart.com:443/TPS7A3901DSCR-Texas-Instruments-datasheet-165804909.pdf?src-supplier=LCSC; ComponentLink5Description: https://datasheet.octopart.com:443/TPS7A3901DSCR-Texas-Instruments-datasheet-165804909.pdf?src-supplier=LCSC; ComponentLink6URL: http://sigma.octopart.com:80/reach_statement/Texas-Instruments-company-64.pdf?src-supplier=Compliance+Statements; ComponentLink6Description: http://sigma.octopart.com:80/reach_statement/Texas-Instruments-company-64.pdf?src-supplier=Compliance+Statements; ComponentLink7URL: http://sigma.octopart.com:80/conflict_mineral_statement/Texas-Instruments-company-63.pdf?src-supplier=Compliance+Statements; ComponentLink7Description: http://sigma.octopart.com:80/conflict_mineral_statement/Texas-Instruments-company-63.pdf?src-supplier=Compliance+Statements
footprint TPS7A3901
pins: 1 INP, 2 EN, 3 NR/SS, 4 GND, 5 INN, 6 OUTN, 7 FBN, 8 BUF, 9 FBP, 10 OUTP, -  EP

## TPS63900DSKR
designator PW_REG?
Buck-Boost Yes 2MHz Programmable 1 5V 1.8V 5.5V 1.8V WFDFN-10(EP) SMD mount，glue mount; Manufacturer: Texas Instruments; Manufacturer Part Number: TPS63900DSKR; Manufacturer Lifecycle Status: ACTIVE; Max Duty Cycle: 99%; Max Junction Temperature (Tj): 125°C; Nominal Supply Current: 75nA; Number of Outputs: 1; Output Current: 400mA; Supplier: DigiKey; Supplier Part Number: 296-TPS63900DSKRCT-ND; RoHS: Compliant; Category: Voltage Regulators - Switching; Stock: 32045; Pricing: 1=2.74, 10=2.042, 25=1.8668, 100=1.6749, 250=1.5834, 500=1.54836, 3000=1.42668, 6000=1.39922 (USD); Ambient Temperature Range High: 85°C; Height: 800µm; Length: 2.5mm; Lifecycle Status: Production; Max Operating Temperature: 125°C; Max Supply Voltage: 5.5V; Min Operating Temperature: -40°C; Min Supply Voltage: 1.8V; Pins: 10; Thickness: 750µm; Topology: Buck-Boost; Width: 2.5mm; ComponentLink1URL: https://octopart.com:443/opatz8j6/c1?t=gNq7TF7tSc49575p1d7uQl57FG5jDcXkBMLDW126I0WEQXkIA098L7NZ_qYIg46R_mEVXP1ZudpvOxjPLOhYoc06XnsUOV98jXAUQjPdW1_iilG_HodZwudlgmeapdYC8MAuybCwXlRSug8DpFgDV6n19M2t72yPupKnKBICJAZReI5Lq1DGSmAwUp7QA5MYuFyWz9dU1JD3eDKFwEa58FXMp_CwZg0PtROB0XhS2GMmy06385Rr9d3ZI0uVTLlC2W9932pjiund1zMk-BM6Pzi5pbwXOYVWoA5-yh00xZrcV1pvqKriKK6xtSp4eHkE3zoXcOTJDfsL5RkPJugosAbBFYdKExzLzKYtWdpNjWSChq_8Wr0YsJke445TpHqaXJCaFbe7Tg&src-supplier=Texas+Instruments; ComponentLink1Description: https://octopart.com:443/opatz8j6/c1?t=gNq7TF7tSc49575p1d7uQl57FG5jDcXkBMLDW126I0WEQXkIA098L7NZ_qYIg46R_mEVXP1ZudpvOxjPLOhYoc06XnsUOV98jXAUQjPdW1_iilG_HodZwudlgmeapdYC8MAuybCwXlRSug8DpFgDV6n19M2t72yPupKnKBICJAZReI5Lq1DGSmAwUp7QA5MYuFyWz9dU1JD3eDKFwEa58FXMp_CwZg0PtROB0XhS2GMmy06385Rr9d3ZI0uVTLlC2W9932pjiund1zMk-BM6Pzi5pbwXOYVWoA5-yh00xZrcV1pvqKriKK6xtSp4eHkE3zoXcOTJDfsL5RkPJugosAbBFYdKExzLzKYtWdpNjWSChq_8Wr0YsJke445TpHqaXJCaFbe7Tg&src-supplier=Texas+Instruments; ComponentLink2URL: http://sigma.octopart.com:80/reach_statement/Texas-Instruments-company-64.pdf?src-supplier=Compliance+Statements; ComponentLink2Description: http://sigma.octopart.com:80/reach_statement/Texas-Instruments-company-64.pdf?src-supplier=Compliance+Statements; ComponentLink3URL: http://sigma.octopart.com:80/conflict_mineral_statement/Texas-Instruments-company-63.pdf?src-supplier=Compliance+Statements; ComponentLink3Description: http://sigma.octopart.com:80/conflict_mineral_statement/Texas-Instruments-company-63.pdf?src-supplier=Compliance+Statements
footprint TPS63900
pins: 1 EN, 2 SEL, 3 CFG1, 4 CFG2, 5 CFG3, 6 VOUT, 7 LX2, 8 GND, 9 LX1, 10 VIN, 11 EP

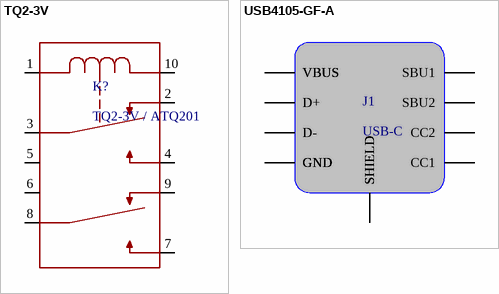
[diagram p1: symbols TQ2-3V to USB4105-GF-A]

## TQ2-3V
designator K?, comment TQ2-3V / ATQ201
Electromechanical Relay Double Pole Double Throw 1A 3 Volt 64.3Ohm Through Hole; Manufacturer: Panasonic; Manufacturer Lifecycle Status: ACTIVE; Coil Current: 47mA; Coil Power: 140mW; Coil Resistance: 64.3Ω; Coil Type: Non-Latching; Coil Voltage (DC): 2.25V; Contact Resistance: 50Ω; Contact Voltage Rating (AC): 125V; Electrical Life: 200kcycles; Insertion Loss (dB): 0.6dB; Max Voltage Rating (DC): 110V; Number of Contacts: 2; Operate Time: 3ms; Power Dissipation: 140W; Ratings: CSA; Relay Type: Telecom; Throw Configuration: DPDT; Supplier: DigiKey; Supplier Part Number: 255-1225-5-ND; Manufacturer Part Number: TQ2-3V; RoHS: Compliant; Category: Signal Relays; Stock: 2058; Pricing: 1=2.36, 10=2.103, 25=2.0084, 50=1.9398, 100=1.8734, 250=1.78892, 500=1.72756, 1000=1.66825, 5000=1.53812 (USD); Case/Package: DIP; Contact Current Rating: 1A; Contact Material: Gold, Silver; Contact Plating: Gold, Silver; Current Rating: 1A; Depth: 9mm; Height: 5mm; Lead Free: Lead Free; Length: 14mm; Lifecycle Status: Production; Max Current Rating: 1A; Max Operating Temperature: 70°C; Max Voltage Rating (AC): 125V; Min Operating Temperature: -40°C; Mounting Technology: Through Hole; Pins: 8; Packaging: Bulk; Power Consumption: 140mW; Radiation Hardening: No; REACH SVHC: Yes; Release Time: 3ms; Response Time: 3ms; Switching Current: 1A; Termination: Solder; Type: Electromechanical; Voltage Rating (AC): 125V; Voltage Rating (DC): 110V; Weight: 1.5g; Width: 9mm; ComponentLink1URL: https://datasheet.octopart.com:443/TQ2-3V-Panasonic-datasheet-8361856.pdf?src-supplier=Panasonic; ComponentLink1Description: https://datasheet.octopart.com:443/TQ2-3V-Panasonic-datasheet-8361856.pdf?src-supplier=Panasonic; ComponentLink2URL: https://datasheet.octopart.com:443/TQ2-3V-Panasonic-datasheet-11522959.pdf?src-supplier=Panasonic; ComponentLink2Description: https://datasheet.octopart.com:443/TQ2-3V-Panasonic-datasheet-11522959.pdf?src-supplier=Panasonic; ComponentLink3URL: https://datasheet.octopart.com:443/TQ2-3V-Panasonic-datasheet-34148902.pdf?src-supplier=IHS; ComponentLink3Description: https://datasheet.octopart.com:443/TQ2-3V-Panasonic-datasheet-34148902.pdf?src-supplier=IHS; ComponentLink4URL: https://datasheet.octopart.com:443/TQ2-3V-Panasonic-datasheet-109883.pdf?src-supplier=element14; ComponentLink4Description: https://datasheet.octopart.com:443/TQ2-3V-Panasonic-datasheet-109883.pdf?src-supplier=element14; ComponentLink5URL: https://datasheet.octopart.com:443/TQ2-3V-Panasonic-datasheet-16066.pdf?src-supplier=element14; ComponentLink5Description: https://datasheet.octopart.com:443/TQ2-3V-Panasonic-datasheet-16066.pdf?src-supplier=element14; ComponentLink6URL: https://datasheet.octopart.com:443/TQ2-3V-Panasonic-datasheet-12570800.pdf?src-supplier=Farnell; ComponentLink6Description: https://datasheet.octopart.com:443/TQ2-3V-Panasonic-datasheet-12570800.pdf?src-supplier=Farnell; ComponentLink7URL: https://datasheet.octopart.com:443/TQ2-3V-Panasonic-datasheet-136735749.pdf?src-supplier=Electro+Sonic; ComponentLink7Description: https://datasheet.octopart.com:443/TQ2-3V-Panasonic-datasheet-136735749.pdf?src-supplier=Electro+Sonic; ComponentLink8URL: https://datasheet.octopart.com:443/TQ2-3V-Panasonic-datasheet-27895613.pdf?src-supplier=Electro+Sonic; ComponentLink8Description: https://datasheet.octopart.com:443/TQ2-3V-Panasonic-datasheet-27895613.pdf?src-supplier=Electro+Sonic; ComponentLink9URL: https://datasheet.octopart.com:443/TQ2-3V-Panasonic-EW-datasheet-23711783.pdf?src-supplier=Electro+Sonic; ComponentLink9Description: https://datasheet.octopart.com:443/TQ2-3V-Panasonic-EW-datasheet-23711783.pdf?src-supplier=Electro+Sonic; ComponentLink10URL: https://datasheet.octopart.com:443/TQ2-3V-Panasonic-datasheet-164871806.pdf?src-supplier=Burklin+Elektronik; ComponentLink10Description: https://datasheet.octopart.com:443/TQ2-3V-Panasonic-datasheet-164871806.pdf?src-supplier=Burklin+Elektronik; ComponentLink11URL: https://datasheet.octopart.com:443/TQ2-3V-Panasonic-datasheet-152536022.pdf?src-supplier=Master+Electronics; ComponentLink11Description: https://datasheet.octopart.com:443/TQ2-3V-Panasonic-datasheet-152536022.pdf?src-supplier=Master+Electronics; ComponentLink12URL: https://datasheet.octopart.com:443/TQ2-3V-Panasonic-datasheet-138897391.pdf?src-supplier=Sager+Electronics; ComponentLink12Description: https://datasheet.octopart.com:443/TQ2-3V-Panasonic-datasheet-138897391.pdf?src-supplier=Sager+Electronics; ComponentLink13URL: https://datasheet.octopart.com:443/TQ2-3V-Panasonic-datasheet-13694242.pdf?src-supplier=_legacy+Avnet; ComponentLink13Description: https://datasheet.octopart.com:443/TQ2-3V-Panasonic-datasheet-13694242.pdf?src-supplier=_legacy+Avnet; ComponentLink14URL: https://datasheet.octopart.com:443/TQ2-3V-Panasonic-datasheet-7279417.pdf?src-supplier=Jameco+(USA); ComponentLink14Description: https://datasheet.octopart.com:443/TQ2-3V-Panasonic-datasheet-7279417.pdf?src-supplier=Jameco+(USA); Supplier 1: Future Electronics; Supplier Part Number 1: TQ2-3V
footprint TQ2-3V
pins: 1, 2, 3, 4, 5, 6, 7, 8, 9, 10

## USB4105-GF-A
designator J1, comment USB-C
USB Connector, 24 Contact(s), Female, Right Angle, Solder Terminal, Locking, Receptacle; Manufacturer: Global Connector Technology; Manufacturer Part Number: USB4105-GF-A; Contact Resistance: 50mΩ; Current Rating: 6.25A; Dielectric Material: Liquid Crystal Polymer; Insulation Resistance: 100MΩ; Number of Contacts: 16; Number of Ports: 1; Number of Positions: 24; USB Standard: USB 2.0; Voltage Rating: 20V; Supplier: DigiKey; Supplier Part Number: 2073-USB4105-GF-ADKR-ND; RoHS: Compliant; Category: USB Connectors; Stock: 132497; Pricing: 1=0.8, 10=0.676, 25=0.6336, 50=0.6034, 100=0.5745, 250=0.53848 (USD); China RoHS: Compliant; Contact Material: Gold, Nickel; Country of Origin: Mainland China; Export Control Classification Number (ECCN) Code: EAR99; Gender: Female; Height: 3.46mm; Harmonized Tariff Schedule (HTS) Code: 8536.69.40.30; Insulation Color: Black; Introduction Date: 2021-04-29; Lifecycle Status: Production; Max Operating Temperature: 85°C; Min Operating Temperature: -40°C; Pins: 16; Number of Rows: 1; Orientation: Right Angle; REACH SVHC: Yes; Shell Finish: Nickel; Shell Material: Stainless Steel; Terminal Pitch: 500µm; ComponentLink1URL: https://datasheet.octopart.com:443/USB4105-GF-A-GCT-datasheet-166929323.pdf?src-supplier=SOS+electronic; ComponentLink1Description: https://datasheet.octopart.com:443/USB4105-GF-A-GCT-datasheet-166929323.pdf?src-supplier=SOS+electronic; ComponentLink2URL: https://datasheet.octopart.com:443/USB4105-GF-A-GCT-datasheet-188935996.pdf?src-supplier=TME; ComponentLink2Description: https://datasheet.octopart.com:443/USB4105-GF-A-GCT-datasheet-188935996.pdf?src-supplier=TME; ComponentLink3URL: https://datasheet.octopart.com:443/USB4105-GF-A-GCT-datasheet-188869076.pdf?src-supplier=TME; ComponentLink3Description: https://datasheet.octopart.com:443/USB4105-GF-A-GCT-datasheet-188869076.pdf?src-supplier=TME; ComponentLink4URL: https://datasheet.octopart.com:443/USB4105-GF-A-GCT-datasheet-166927665.pdf?src-supplier=TME; ComponentLink4Description: https://datasheet.octopart.com:443/USB4105-GF-A-GCT-datasheet-166927665.pdf?src-supplier=TME
footprint USB4105-GF-A (USB2.0 TYP C 16P SMD RA)
pins: A1 GND, A4 VBUS, A5 CC1, A6 D+, A7 D-, A8 SBU1, A9 VBUS, A12 GND, B1 GND, B4 VBUS, B5 CC2, B6 D+, B7 D-, B8 SBU2, B9 VBUS, B12 GND, SHIELD1 SHIELD, SHIELD2 SHIELD, SHIELD3 SHIELD, SHIELD4 SHIELD